# Altium footprint library TSOP.PcbLib: 7 footprints
Each footprint in its own frame and in the unit in brackets; x right, y up, seen from the top. Pads: shape width x height; smd on the part's side, far side on the other; paste and mask are expansions set on the pad; w line width, h text height; cw(c..) or ccw(c..) is an arc to the next point about the centre after c.
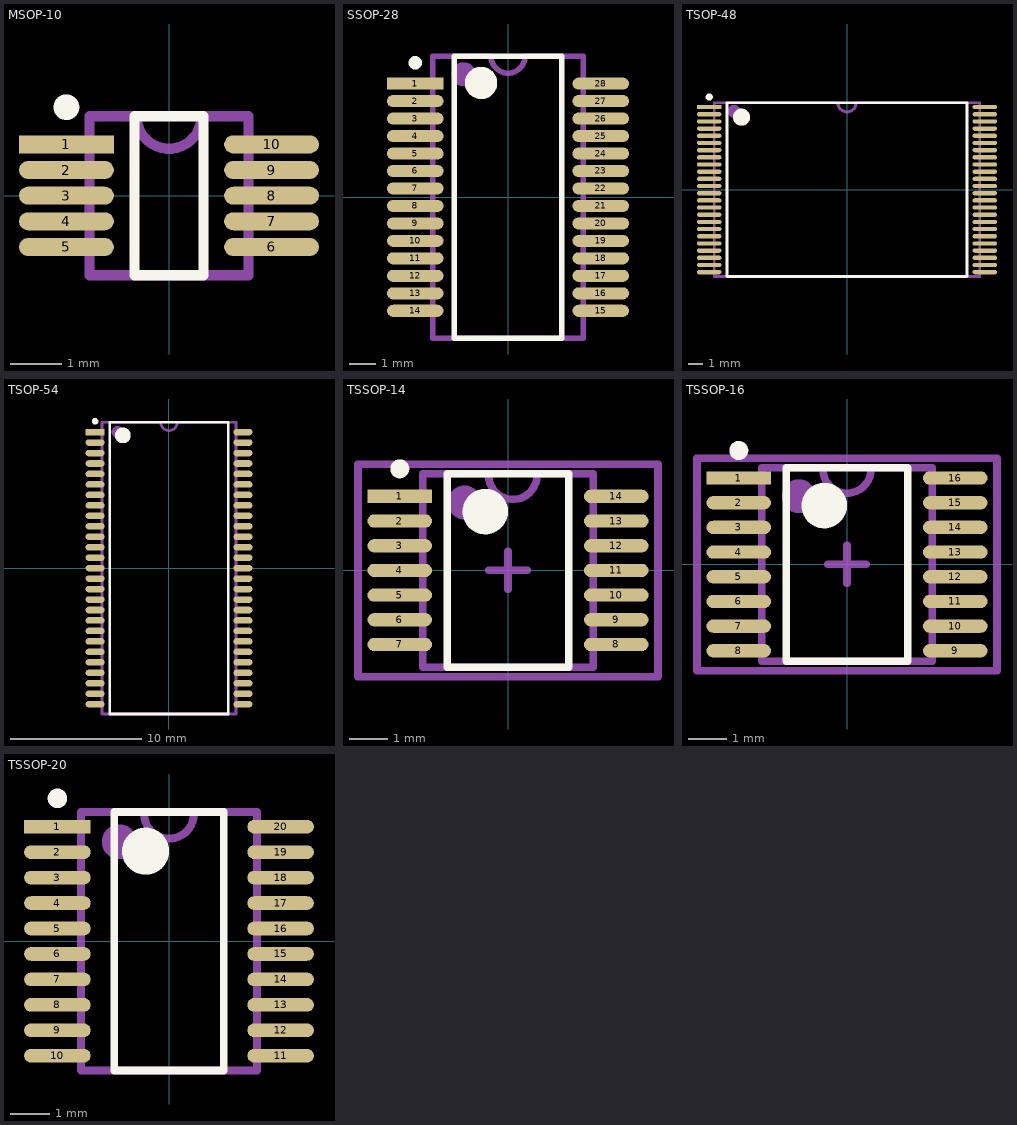
[diagram p0: the footprints below, top view; thin cyan lines are the x and y axes]

## MSOP-10 [mm] "SSOP, 10-Leads, Body 3,1x3,1mm (max), Pitch 0,50mm, IPC Medium Density"
height 2.65
pads (10):
  rect 1.85x0.35 smd: 1(-2,1)
  oval 1.85x0.35 smd: 2(-2,0.5) 3(-2,0) 4(-2,-0.5) 5(-2,-1) 6(2,-1) 7(2,-0.5) 8(2,0) 9(2,0.5) 10(2,1)
Top Overlay:
  circle w0.25: c-2,1.725 r0.125
  lines w0.2: -0.675,-1.55 -0.675,1.55 0.675,1.55 0.675,-1.55 -0.675,-1.55
Mechanical 13:
  lines w0.2: -1.55,-1.55 -1.55,1.55 -0.635,1.55 ccw(c0,1.55) 0.635,1.55 1.55,1.55 1.55,-1.55 -1.55,-1.55
  text ".Designator" at -0.381,0.381 h1.5
3D body: height 0.85, standoff -0.05, extent -2.487,-1.5 2.413,1.5

## SSOP-28 [mm] "SOP, 28-Leads, Body 10,5x5,6mm (max), Pitch 0,65mm, IPC Medium Density"
height 2.65
pads (28):
  rect 2.1x0.45 smd: 1(-3.45,4.225)
  oval 2.1x0.45 smd: 2(-3.45,3.575) 3(-3.45,2.925) 4(-3.45,2.275) 5(-3.45,1.625) 6(-3.45,0.975) 7(-3.45,0.325) 8(-3.45,-0.325) 9(-3.45,-0.975) 10(-3.45,-1.625) 11(-3.45,-2.275) 12(-3.45,-2.925) 13(-3.45,-3.575) 14(-3.45,-4.225) 15(3.45,-4.225) 16(3.45,-3.575) 17(3.45,-2.925) 18(3.45,-2.275) 19(3.45,-1.625) 20(3.45,-0.975) 21(3.45,-0.325) 22(3.45,0.325) 23(3.45,0.975) 24(3.45,1.625) 25(3.45,2.275) 26(3.45,2.925) 27(3.45,3.575) 28(3.45,4.225)
Top Overlay:
  circle w0.6: c-1,4.25 r0.3
  circle w0.25: c-3.45,5 r0.125
  lines w0.2: -2,-5.25 2,-5.25 2,5.25 -2,5.25 -2,-5.25
Mechanical 13:
  circle w0.635: c-1.651,4.572 r0.127
  lines w0.2: -2.8,-5.25 2.8,-5.25 2.8,5.25 0.635,5.25 cw(c0,5.25) -0.635,5.25 -2.8,5.25 -2.8,-5.25
  text ".Designator" at -0.381,2.921 h1.5
3D body: height 1.8, standoff -0.06, extent -3.863,-5.1 3.937,5.1

## TSOP-48 [mm] "TSSOP, 48-Leads, Body 12,1x18,5mm (max), Pitch 0,50mm, IPC Medium Density"
height 1.2
pads (48):
  rect 1.7x0.3 smd: 1(-9.6,5.75)
  oval 1.7x0.3 smd: 2(-9.6,5.25) 3(-9.6,4.75) 4(-9.6,4.25) 5(-9.6,3.75) 6(-9.6,3.25) 7(-9.6,2.75) 8(-9.6,2.25) 9(-9.6,1.75) 10(-9.6,1.25) 11(-9.6,0.75) 12(-9.6,0.25) 13(-9.6,-0.25) 14(-9.6,-0.75) 15(-9.6,-1.25) 16(-9.6,-1.75) 17(-9.6,-2.25) 18(-9.6,-2.75) 19(-9.6,-3.25) 20(-9.6,-3.75) 21(-9.6,-4.25) 22(-9.6,-4.75) 23(-9.6,-5.25) 24(-9.6,-5.75) 25(9.6,-5.75) 26(9.6,-5.25) 27(9.6,-4.75) 28(9.6,-4.25) 29(9.6,-3.75) 30(9.6,-3.25) 31(9.6,-2.75) 32(9.6,-2.25) 33(9.6,-1.75) 34(9.6,-1.25) 35(9.6,-0.75) 36(9.6,-0.25) 37(9.6,0.25) 38(9.6,0.75) 39(9.6,1.25) 40(9.6,1.75) 41(9.6,2.25) 42(9.6,2.75) 43(9.6,3.25) 44(9.6,3.75) 45(9.6,4.25) 46(9.6,4.75) 47(9.6,5.25) 48(9.6,5.75)
Top Overlay:
  circle w0.25: c-9.6,6.45 r0.125
  circle w0.6: c-7.35,5.05 r0.3
  lines w0.2: -8.35,-6.05 -8.35,6.05 8.35,6.05 8.35,-6.05 -8.35,-6.05
Mechanical 13:
  circle w0.635: c-7.874,5.461 r0.127
  lines w0.2: -9.25,-6.05 -9.25,6.05 -0.635,6.05 ccw(c0,6.05) 0.635,6.05 9.25,6.05 9.25,-6.05 -9.25,-6.05
  text ".Designator" at -4.572,0.889 h2.5
3D body: height 1.25, standoff -0.01, extent -10.067,-6.05 10.033,6.05

## TSOP-54 [mm] "TSOP, 54-Leads, Body 22,3x10,2mm (max), Pitch 0,80mm, IPC Medium Density"
height 1.2
pads (54):
  rect 1.45x0.5 smd: 1(-5.65,10.4)
  oval 1.45x0.5 smd: 2(-5.65,9.6) 3(-5.65,8.8) 4(-5.65,8) 5(-5.65,7.2) 6(-5.65,6.4) 7(-5.65,5.6) 8(-5.65,4.8) 9(-5.65,4) 10(-5.65,3.2) 11(-5.65,2.4) 12(-5.65,1.6) 13(-5.65,0.8) 14(-5.65,0) 15(-5.65,-0.8) 16(-5.65,-1.6) 17(-5.65,-2.4) 18(-5.65,-3.2) 19(-5.65,-4) 20(-5.65,-4.8) 21(-5.65,-5.6) 22(-5.65,-6.4) 23(-5.65,-7.2) 24(-5.65,-8) 25(-5.65,-8.8) 26(-5.65,-9.6) 27(-5.65,-10.4) 28(5.65,-10.4) 29(5.65,-9.6) 30(5.65,-8.8) 31(5.65,-8) 32(5.65,-7.2) 33(5.65,-6.4) 34(5.65,-5.6) 35(5.65,-4.8) 36(5.65,-4) 37(5.65,-3.2) 38(5.65,-2.4) 39(5.65,-1.6) 40(5.65,-0.8) 41(5.65,0) 42(5.65,0.8) 43(5.65,1.6) 44(5.65,2.4) 45(5.65,3.2) 46(5.65,4) 47(5.65,4.8) 48(5.65,5.6) 49(5.65,6.4) 50(5.65,7.2) 51(5.65,8) 52(5.65,8.8) 53(5.65,9.6) 54(5.65,10.4)
Top Overlay:
  circle w0.6: c-3.525,10.15 r0.3
  circle w0.25: c-5.65,11.225 r0.125
  lines w0.2: -4.525,-11.15 4.525,-11.15 4.525,11.15 -4.525,11.15 -4.525,-11.15
Mechanical 13:
  circle w0.635: c-3.937,10.414 r0.127
  lines w0.2: -5.12,-11.15 5.12,-11.15 5.12,11.15 0.635,11.15 cw(c0,11.15) -0.635,11.15 -5.12,11.15 -5.12,-11.15
  text ".Designator" at -0.762,6.477 h2.5
3D body: height 1.25, standoff 0, extent -5.918,-11.11 5.842,11.11

## TSSOP-14 [mm] "TSOP, 14-Leads, Body 5,1x4,5mm (max), Pitch 0,65mm, IPC Medium Density"
height 1.1
pads (14):
  rect 1.7x0.35 smd: 1(-2.85,1.95)
  oval 1.7x0.35 smd: 2(-2.85,1.3) 3(-2.85,0.65) 4(-2.85,0) 5(-2.85,-0.65) 6(-2.85,-1.3) 7(-2.85,-1.95) 8(2.85,-1.95) 9(2.85,-1.3) 10(2.85,-0.65) 11(2.85,0) 12(2.85,0.65) 13(2.85,1.3) 14(2.85,1.95)
Top Overlay:
  circle w0.25: c-2.85,2.675 r0.125
  circle w0.6: c-0.6,1.55 r0.3
  lines w0.2: -1.6,-2.55 -1.6,2.55 1.6,2.55 1.6,-2.55 -1.6,-2.55
Mechanical 13:
  circle w0.635: c-1.143,1.788 r0.127
  lines w0.2: -0.508,2.502 ccw(c0.127,2.502) 0.762,2.502 ; -0.508,2.55 -2.25,2.55 -2.25,-2.55 2.25,-2.55 2.25,2.55 0.762,2.55
  text ".Designator" at -0.889,-0.508 h1.52
Mechanical 15:
  lines w0.2: -0.5,0 0.5,0 ; 0,-0.5 0,0.5 ; -3.95,-2.8 -3.95,2.8 3.95,2.8 3.95,-2.8 -3.95,-2.8
3D body: height 1, standoff 0.03, extent -3.2,-2.54 3.2,2.46

## TSSOP-16 [mm] "TSOP, 16-Leads, Body 5,1x4,5mm (max), Pitch 0,65mm, IPC Medium Density"
height 1.1
pads (16):
  rect 1.7x0.35 smd: 1(-2.85,2.275)
  oval 1.7x0.35 smd: 2(-2.85,1.625) 3(-2.85,0.975) 4(-2.85,0.325) 5(-2.85,-0.325) 6(-2.85,-0.975) 7(-2.85,-1.625) 8(-2.85,-2.275) 9(2.85,-2.275) 10(2.85,-1.625) 11(2.85,-0.975) 12(2.85,-0.325) 13(2.85,0.325) 14(2.85,0.975) 15(2.85,1.625) 16(2.85,2.275)
Top Overlay:
  circle w0.6: c-0.6,1.55 r0.3
  circle w0.25: c-2.85,3 r0.125
  lines w0.2: -1.6,-2.55 1.6,-2.55 1.6,2.55 -1.6,2.55 -1.6,-2.55
Mechanical 13:
  circle w0.635: c-1.27,1.798 r0.127
  lines w0.2: -0.635,2.512 ccw(c0,2.512) 0.635,2.512 ; -0.635,2.55 -2.25,2.55 -2.25,-2.55 2.25,-2.55 2.25,2.55 0.635,2.55
  text ".Designator" at -1.016,-0.498 h1.52
Mechanical 15:
  lines w0.2: -0.5,0 0.5,0 ; 0,-0.5 0,0.5 ; -3.95,-2.8 3.95,-2.8 3.95,2.8 -3.95,2.8 -3.95,-2.8
3D body: height 1, standoff 0.03, extent -3.225,-2.5 3.175,2.5

## TSSOP-20 [mm] "SOP, 20-Leads, Body 6,6x4,5mm (max), Pitch 0,65mm, IPC Medium Density"
height 2.65
pads (20):
  rect 1.7x0.35 smd: 1(-2.85,2.925)
  oval 1.7x0.35 smd: 2(-2.85,2.275) 3(-2.85,1.625) 4(-2.85,0.975) 5(-2.85,0.325) 6(-2.85,-0.325) 7(-2.85,-0.975) 8(-2.85,-1.625) 9(-2.85,-2.275) 10(-2.85,-2.925) 11(2.85,-2.925) 12(2.85,-2.275) 13(2.85,-1.625) 14(2.85,-0.975) 15(2.85,-0.325) 16(2.85,0.325) 17(2.85,0.975) 18(2.85,1.625) 19(2.85,2.275) 20(2.85,2.925)
Top Overlay:
  circle w0.6: c-0.6,2.3 r0.3
  circle w0.25: c-2.85,3.65 r0.125
  lines w0.2: -1.397,-3.3 1.397,-3.3 1.397,3.3 -1.397,3.3 -1.397,-3.3
Mechanical 13:
  circle w0.635: c-1.27,2.54 r0.127
  lines w0.2: -0.635,3.254 ccw(c0,3.254) 0.635,3.254 ; -0.635,3.3 -2.25,3.3 -2.25,-3.3 2.25,-3.3 2.25,3.3 0.635,3.3
  text ".Designator" at -2.286,3.683 h1.52
3D body: height 1, standoff 0.03, extent -3.225,-3.25 3.175,3.25